# EAGLE library part AD80066 (library 1_spektrak)
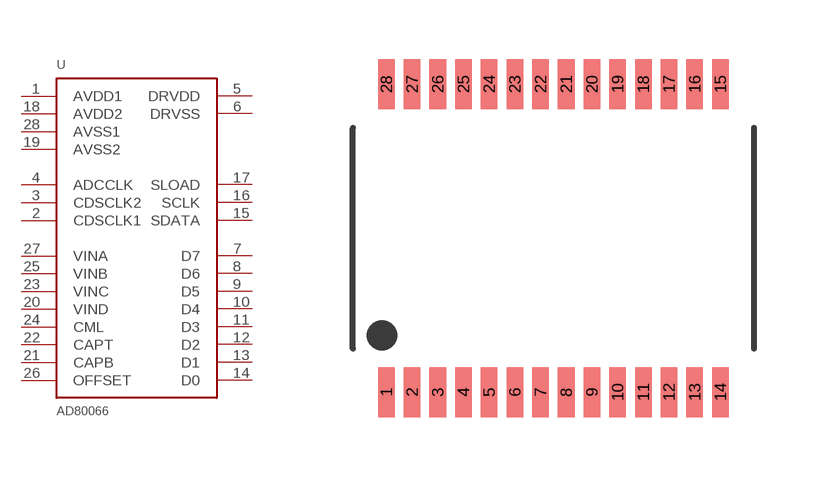
[diagram p32: symbol with the pads of ADC_28SSOP; footprint ADC_28SSOP]

Designator prefix U

## AD80066  [ADC_28SSOP]
1  AVDD1  pwr
2  CDSCLK1  in
3  CDSCLK2  in
4  ADCCLK  in
5  DRVDD  pwr
6  DRVSS  pwr
7  D7  out
8  D6  out
9  D5  out
10  D4  out
11  D3  out
12  D2  out
13  D1  out
14  D0  out
15  SDATA
16  SCLK  in
17  SLOAD  in
18  AVDD2  pwr
19  AVSS2  pwr
20  VIND  in
21  CAPB  in
22  CAPT  in
23  VINC  in
24  CML  in
25  VINB  in
26  OFFSET  in
27  VINA  in
28  AVSS1  pwr

## Footprint ADC_28SSOP (pad centres in mm)
smd 0.419 x 1.27: 1 -4.229,-3.899; 2 -3.579,-3.899; 3 -2.929,-3.899; 4 -2.278,-3.899; 5 -1.628,-3.899; 6 -0.978,-3.899; 7 -0.328,-3.899; 8 0.323,-3.899; 9 0.973,-3.899; 10 1.623,-3.899; 11 2.273,-3.899; 12 2.924,-3.899; 13 3.574,-3.899; 14 4.224,-3.899; 15 4.224,3.904; 16 3.574,3.904; 17 2.924,3.904; 18 2.273,3.904; 19 1.623,3.904; 20 0.973,3.904; 21 0.323,3.904; 22 -0.328,3.904; 23 -0.978,3.904; 24 -1.628,3.904; 25 -2.278,3.904; 26 -2.929,3.904; 27 -3.579,3.904; 28 -4.229,3.904